# Altium integrated library Cypress Clocks & Buffers Clock Generation.IntLib: 249 symbols (part 9 of 12)
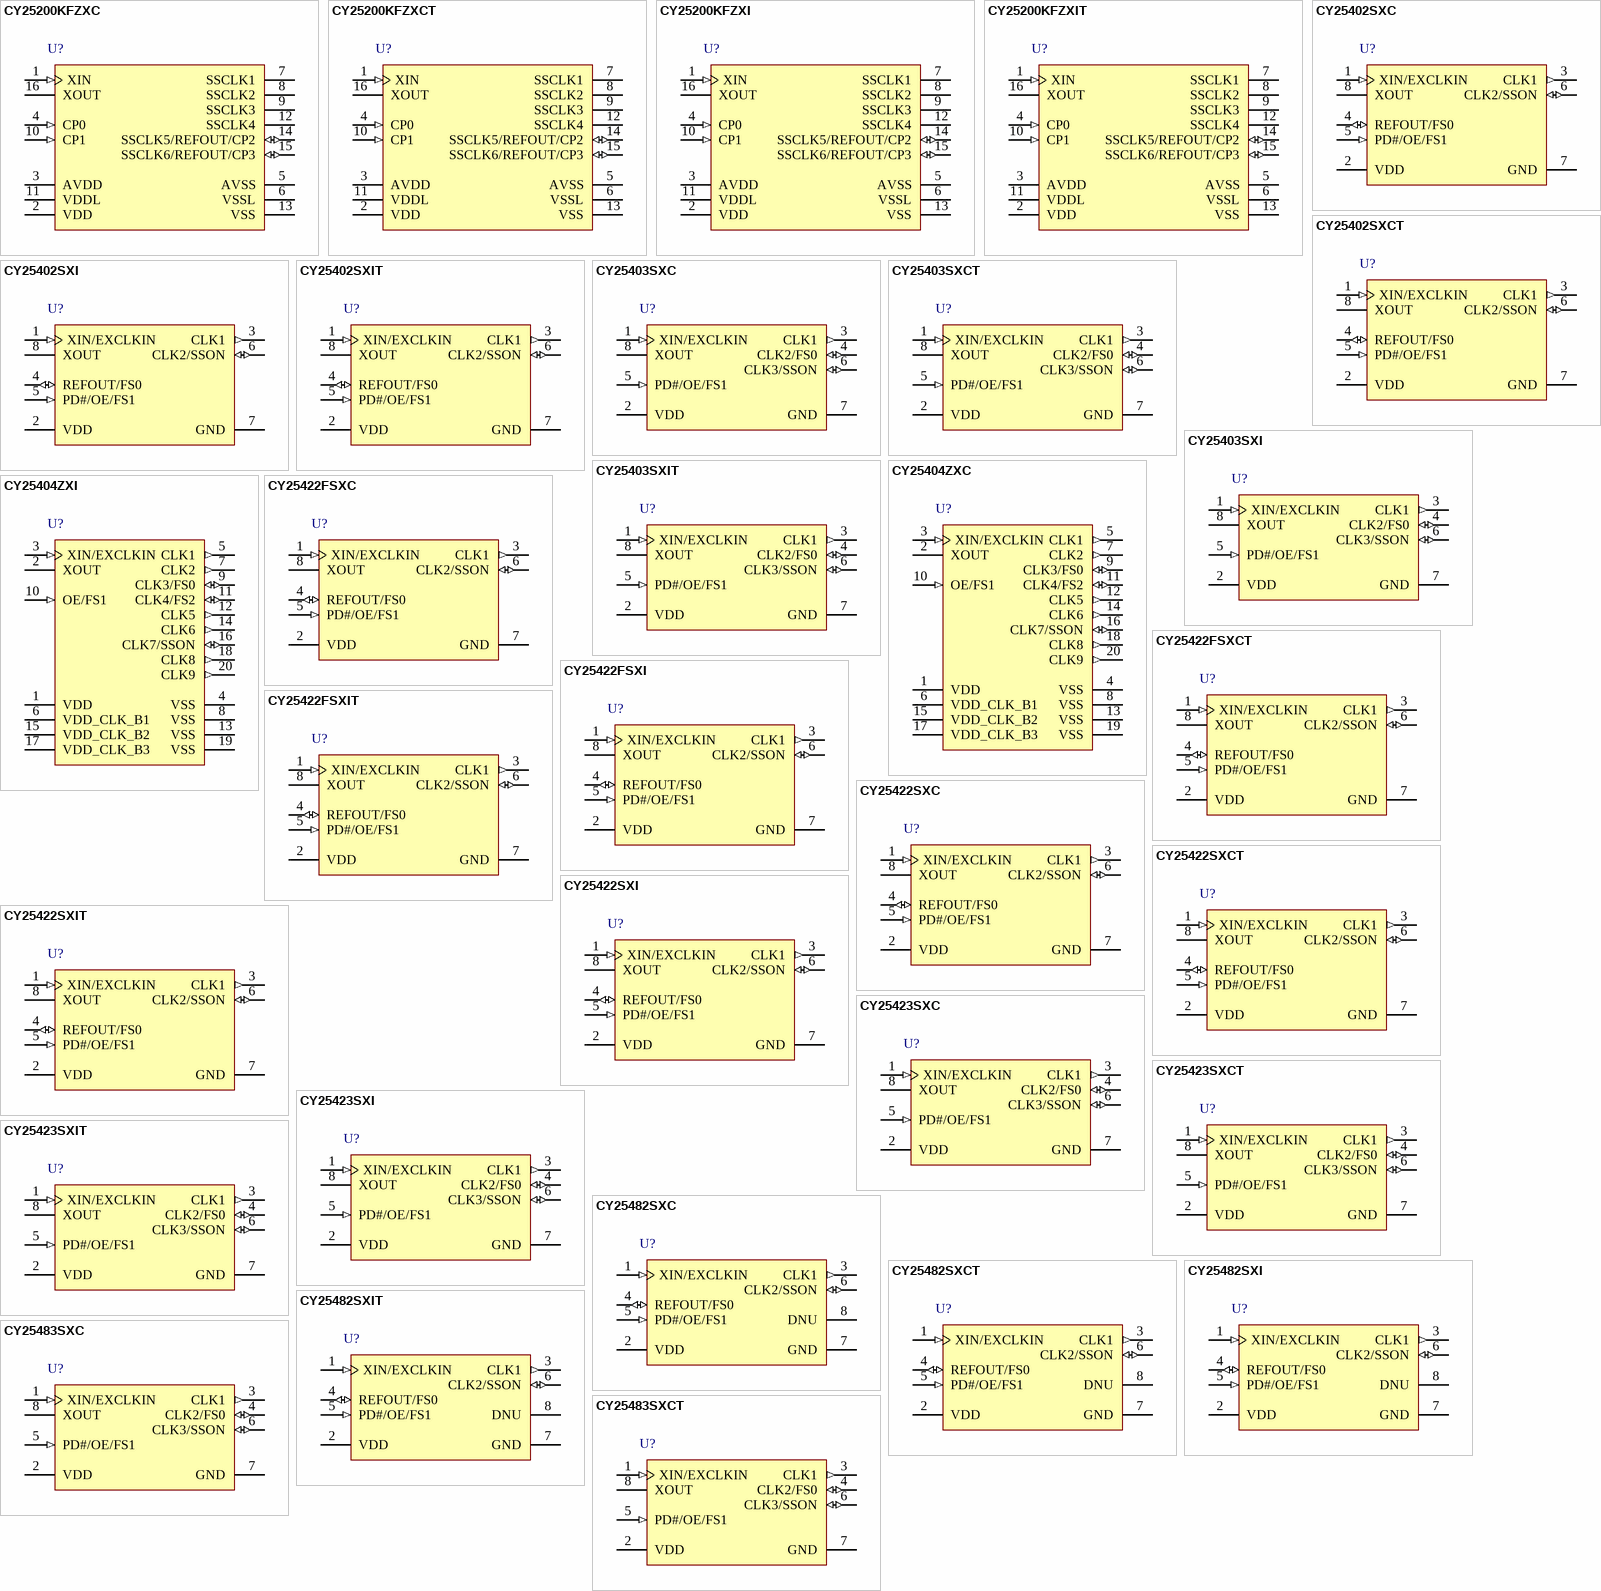
[diagram p16: symbols CY25200KFZXC to CY25483SXCT]

## CY25483SXC
designator U?
Three PLL Programmable Clock Generator with Spread Spectrum, 2.5 / 3.0 / 3.3 V, 3 Outputs, 3 to 166 MHz, 0 to 70 degC, 8-Pin SOIC (SX8), Tube; Manufacturer: Cypress; PartNumber: CY25483SXC; Input Frequency Max. (MHz): 166; Input Frequency Min. (MHz): 8; Max. Operating Voltage (V): 3.6; Min. Operating Voltage (V): 2.25; No. of Outputs: 3; DatasheetVersion: Rev. *F; PackageVersion: Rev. *E, 06/2011; PackageReference: SX8; PackageDescription: 8-pin Lead SOIC-S08, Body 4.89 x 3.90 mm,Pitch 1.27 mm; Max. Operating Temp. (degreesC): 70; Min. Operating Temp. (degreesC): 0; Output Frequency Max. (MHz): 166; Output Frequency Min. (MHz): 3; Packing: Tube; RoHS: Pb-Free; Mounting Technology: Surface Mount; Code_JEDEC: MS-012; ComponentLink1Description: Manufacturer URL; ComponentLink1URL: http://www.cypress.com/; ComponentLink2Description: Datasheet; ComponentLink2URL: http://www.cypress.com/?docID=30306; ComponentLink3Description: Package Specification; ComponentLink3URL: http://www.cypress.com/?docID=39153
footprint CYP-SX8_N (SOIC, 8-Leads, Body 4.89x3.90mm, Pitch 1.27mm, IPC Medium Density)
footprint CYP-SX8_L (SOIC, 8-Leads, Body 4.89x3.90mm, Pitch 1.27mm, IPC High Density)
footprint CYP-SX8_M (SOIC, 8-Leads, Body 4.89x3.90mm, Pitch 1.27mm, IPC Low Density)
pins: 1 XIN/EXCLKIN (in) "Crystal input or 1.8 V external clock input", 2 VDD (power) "Power supply: 2.5 V, 3.0 V, or 3.3 V", 3 CLK1 (out) "Programmable clock output with spread spectrum", 4 CLK2/FS0 (io) "Multifunction programmable pin: programmable clock output with no spread spectrum or frequency select pin", 5 PD#/OE/FS1 (in) "Multifunction programmable pin: power-down, output enable, or frequency select pin", 6 CLK3/SSON (io) "Multifunction programmable pin: programmable clock output with spread spectrum or spread spectrum ON/OFF control pin", 7 GND (power) "Power supply ground", 8 XOUT "Crystal output"

## CY25483SXCT
designator U?
Three PLL Programmable Clock Generator with Spread Spectrum, 2.5 / 3.0 / 3.3 V, 3 Outputs, 3 to 166 MHz, 0 to 70 degC, 8-Pin SOIC (SX8), Tape and Reel; Manufacturer: Cypress; PartNumber: CY25483SXCT; Input Frequency Max. (MHz): 166; Input Frequency Min. (MHz): 8; Max. Operating Voltage (V): 3.6; Min. Operating Voltage (V): 2.25; No. of Outputs: 3; DatasheetVersion: Rev. *F; PackageVersion: Rev. *E, 06/2011; PackageReference: SX8; PackageDescription: 8-pin Lead SOIC-S08, Body 4.89 x 3.90 mm,Pitch 1.27 mm; Max. Operating Temp. (degreesC): 70; Min. Operating Temp. (degreesC): 0; Output Frequency Max. (MHz): 166; Output Frequency Min. (MHz): 3; Packing: Tape and Reel; RoHS: Pb-Free; Mounting Technology: Surface Mount; Code_JEDEC: MS-012; ComponentLink1Description: Manufacturer URL; ComponentLink1URL: http://www.cypress.com/; ComponentLink2Description: Datasheet; ComponentLink2URL: http://www.cypress.com/?docID=30306; ComponentLink3Description: Package Specification; ComponentLink3URL: http://www.cypress.com/?docID=39153
footprint CYP-SX8_N (SOIC, 8-Leads, Body 4.89x3.90mm, Pitch 1.27mm, IPC Medium Density)
footprint CYP-SX8_L (SOIC, 8-Leads, Body 4.89x3.90mm, Pitch 1.27mm, IPC High Density)
footprint CYP-SX8_M (SOIC, 8-Leads, Body 4.89x3.90mm, Pitch 1.27mm, IPC Low Density)
pins: 1 XIN/EXCLKIN (in) "Crystal input or 1.8 V external clock input", 2 VDD (power) "Power supply: 2.5 V, 3.0 V, or 3.3 V", 3 CLK1 (out) "Programmable clock output with spread spectrum", 4 CLK2/FS0 (io) "Multifunction programmable pin: programmable clock output with no spread spectrum or frequency select pin", 5 PD#/OE/FS1 (in) "Multifunction programmable pin: power-down, output enable, or frequency select pin", 6 CLK3/SSON (io) "Multifunction programmable pin: programmable clock output with spread spectrum or spread spectrum ON/OFF control pin", 7 GND (power) "Power supply ground", 8 XOUT "Crystal output"

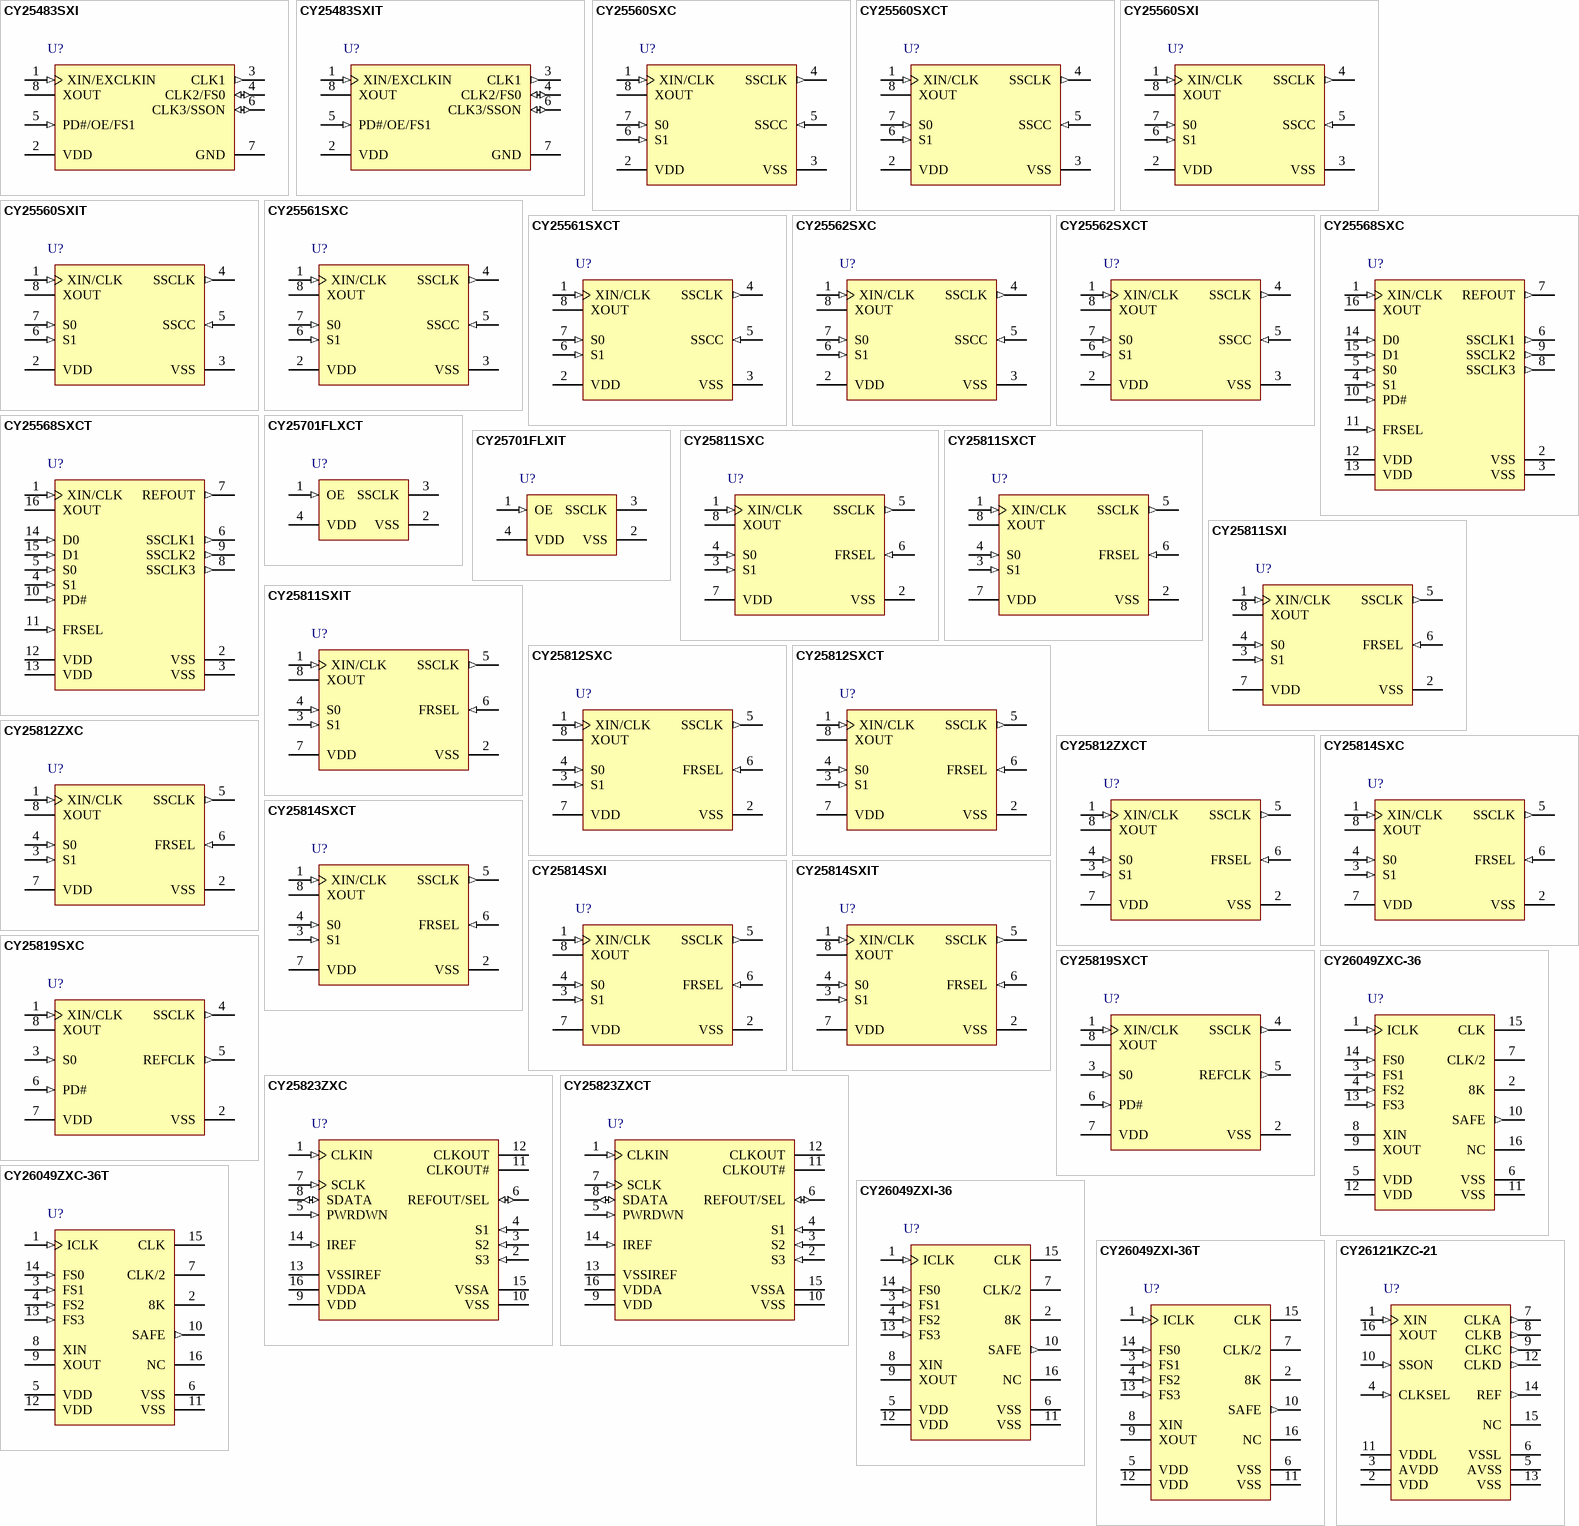
[diagram p6: symbols CY25483SXI to CY26121KZC-21]

## CY25483SXI
designator U?
Three PLL Programmable Clock Generator with Spread Spectrum, 2.5 / 3.0 / 3.3 V, 3 Outputs, 3 to 166 MHz, -40 to 85 degC, 8-Pin SOIC (SX8), Tube; Manufacturer: Cypress; PartNumber: CY25483SXI; Input Frequency Max. (MHz): 166; Input Frequency Min. (MHz): 8; Max. Operating Voltage (V): 3.6; Min. Operating Voltage (V): 2.25; No. of Outputs: 3; DatasheetVersion: Rev. *F; PackageVersion: Rev. *E, 06/2011; PackageReference: SX8; PackageDescription: 8-pin Lead SOIC-S08, Body 4.89 x 3.90 mm,Pitch 1.27 mm; Max. Operating Temp. (degreesC): 85; Min. Operating Temp. (degreesC): -40; Output Frequency Max. (MHz): 166; Output Frequency Min. (MHz): 3; Packing: Tube; RoHS: Pb-Free; Mounting Technology: Surface Mount; Code_JEDEC: MS-012; ComponentLink1Description: Manufacturer URL; ComponentLink1URL: http://www.cypress.com/; ComponentLink2Description: Datasheet; ComponentLink2URL: http://www.cypress.com/?docID=30306; ComponentLink3Description: Package Specification; ComponentLink3URL: http://www.cypress.com/?docID=39153
footprint CYP-SX8_N (SOIC, 8-Leads, Body 4.89x3.90mm, Pitch 1.27mm, IPC Medium Density)
footprint CYP-SX8_L (SOIC, 8-Leads, Body 4.89x3.90mm, Pitch 1.27mm, IPC High Density)
footprint CYP-SX8_M (SOIC, 8-Leads, Body 4.89x3.90mm, Pitch 1.27mm, IPC Low Density)
pins: 1 XIN/EXCLKIN (in) "Crystal input or 1.8 V external clock input", 2 VDD (power) "Power supply: 2.5 V, 3.0 V, or 3.3 V", 3 CLK1 (out) "Programmable clock output with spread spectrum", 4 CLK2/FS0 (io) "Multifunction programmable pin: programmable clock output with no spread spectrum or frequency select pin", 5 PD#/OE/FS1 (in) "Multifunction programmable pin: power-down, output enable, or frequency select pin", 6 CLK3/SSON (io) "Multifunction programmable pin: programmable clock output with spread spectrum or spread spectrum ON/OFF control pin", 7 GND (power) "Power supply ground", 8 XOUT "Crystal output"

## CY25483SXIT
designator U?
Three PLL Programmable Clock Generator with Spread Spectrum, 2.5 / 3.0 / 3.3 V, 3 Outputs, 3 to 166 MHz, -40 to 85 degC, 8-Pin SOIC (SX8), Tape and Reel; Manufacturer: Cypress; PartNumber: CY25483SXIT; Input Frequency Max. (MHz): 166; Input Frequency Min. (MHz): 8; Max. Operating Voltage (V): 3.6; Min. Operating Voltage (V): 2.25; No. of Outputs: 3; DatasheetVersion: Rev. *F; PackageVersion: Rev. *E, 06/2011; PackageReference: SX8; PackageDescription: 8-pin Lead SOIC-S08, Body 4.89 x 3.90 mm,Pitch 1.27 mm; Max. Operating Temp. (degreesC): 85; Min. Operating Temp. (degreesC): -40; Output Frequency Max. (MHz): 166; Output Frequency Min. (MHz): 3; Packing: Tape and Reel; RoHS: Pb-Free; Mounting Technology: Surface Mount; Code_JEDEC: MS-012; ComponentLink1Description: Manufacturer URL; ComponentLink1URL: http://www.cypress.com/; ComponentLink2Description: Datasheet; ComponentLink2URL: http://www.cypress.com/?docID=30306; ComponentLink3Description: Package Specification; ComponentLink3URL: http://www.cypress.com/?docID=39153
footprint CYP-SX8_N (SOIC, 8-Leads, Body 4.89x3.90mm, Pitch 1.27mm, IPC Medium Density)
footprint CYP-SX8_L (SOIC, 8-Leads, Body 4.89x3.90mm, Pitch 1.27mm, IPC High Density)
footprint CYP-SX8_M (SOIC, 8-Leads, Body 4.89x3.90mm, Pitch 1.27mm, IPC Low Density)
pins: 1 XIN/EXCLKIN (in) "Crystal input or 1.8 V external clock input", 2 VDD (power) "Power supply: 2.5 V, 3.0 V, or 3.3 V", 3 CLK1 (out) "Programmable clock output with spread spectrum", 4 CLK2/FS0 (io) "Multifunction programmable pin: programmable clock output with no spread spectrum or frequency select pin", 5 PD#/OE/FS1 (in) "Multifunction programmable pin: power-down, output enable, or frequency select pin", 6 CLK3/SSON (io) "Multifunction programmable pin: programmable clock output with spread spectrum or spread spectrum ON/OFF control pin", 7 GND (power) "Power supply ground", 8 XOUT "Crystal output"

## CY25560SXC
designator U?
Spread Spectrum Clock Generator, 3.3 V, 1 Output, 25 to 100 MHz, 0 to 70 degC, 8-Pin SOIC (SX8), Tube; Manufacturer: Cypress; PartNumber: CY25560SXC; Input Frequency Max. (MHz): 100; Input Frequency Min. (MHz): 25; Max. Operating Voltage (V): 3.63; Min. Operating Voltage (V): 2.97; No. of Outputs: 1; DatasheetVersion: Rev. *G; PackageVersion: Rev. *E, 06/2011; PackageReference: SX8; PackageDescription: 8-pin Lead SOIC-S08, Body 4.89 x 3.90 mm,Pitch 1.27 mm; Supplier 1: Digi-Key; Supplier Part Number 1: 428-2222-5-ND; Supplier 2: Newark; Supplier Part Number 2: 19M6008; Supplier 3: Mouser; Supplier Part Number 3: 727-CY25560SXC; Max. Operating Temp. (degreesC): 70; Min. Operating Temp. (degreesC): 0; Output Frequency Max. (MHz): 100; Output Frequency Min. (MHz): 25; Packing: Tube; RoHS: Pb-Free; Mounting Technology: Surface Mount; Code_JEDEC: MS-012; ComponentLink1Description: Manufacturer URL; ComponentLink1URL: http://www.cypress.com/; ComponentLink2Description: Datasheet; ComponentLink2URL: http://www.cypress.com/?docID=30665; ComponentLink3Description: Package Specification; ComponentLink3URL: http://www.cypress.com/?docID=39153
footprint CYP-SX8_N (SOIC, 8-Leads, Body 4.89x3.90mm, Pitch 1.27mm, IPC Medium Density)
footprint CYP-SX8_L (SOIC, 8-Leads, Body 4.89x3.90mm, Pitch 1.27mm, IPC High Density)
footprint CYP-SX8_M (SOIC, 8-Leads, Body 4.89x3.90mm, Pitch 1.27mm, IPC Low Density)
pins: 1 XIN/CLK (in) "Clock or crystal connection input. See the Table 2 on page 4 for input frequency range selection.", 2 VDD (power) "Positive power supply", 3 VSS (power) "Power supply ground.", 4 SSCLK (out) "Modulated clock output, that is the same frequency as the input clock or the crystal frequency.", 5 SSCC (in) "Spread spectrum clock control (enable/disable) function. SSCG function is enabled when input is high and disabled when input is low. This pin is pulled high internally.", 6 S1 (in) "Tri-level logic input control pin used to select input frequency range and spread percent. See the “Tri-Level Logic?on page 4 for programming details. Pin 6 has an internal resistor divider network to VDD and VSS. (See Datasheet)", 7 S0 (in) "Tri-level logic input control pin used to select input frequency range and spread percent. See the “Tri-Level Logic?on page 4 for programming details. Pin 7 has an internal resistor divider network to VDD and VSS. (See Datasheet)", 8 XOUT "Oscillator output pin connected to crystal. Leave this pin unconnected if an external clock is used to drive xin/clk input (Pin 1)."

## CY25560SXCT
designator U?
Spread Spectrum Clock Generator, 3.3 V, 1 Output, 25 to 100 MHz, 0 to 70 degC, 8-Pin SOIC (SX8), Tape and Reel; Manufacturer: Cypress; PartNumber: CY25560SXCT; Input Frequency Max. (MHz): 100; Input Frequency Min. (MHz): 25; Max. Operating Voltage (V): 3.63; Min. Operating Voltage (V): 2.97; No. of Outputs: 1; DatasheetVersion: Rev. *G; PackageVersion: Rev. *E, 06/2011; PackageReference: SX8; PackageDescription: 8-pin Lead SOIC-S08, Body 4.89 x 3.90 mm,Pitch 1.27 mm; Supplier 1: Digi-Key; Supplier Part Number 1: CY25560SXCT-ND; Supplier 2: Newark; Supplier Part Number 2: 19M6009; Supplier 3: Mouser; Supplier Part Number 3: 727-CY25560SXCT; Max. Operating Temp. (degreesC): 70; Min. Operating Temp. (degreesC): 0; Output Frequency Max. (MHz): 100; Output Frequency Min. (MHz): 25; Packing: Tape and Reel; RoHS: Pb-Free; Mounting Technology: Surface Mount; Code_JEDEC: MS-012; ComponentLink1Description: Manufacturer URL; ComponentLink1URL: http://www.cypress.com/; ComponentLink2Description: Datasheet; ComponentLink2URL: http://www.cypress.com/?docID=30665; ComponentLink3Description: Package Specification; ComponentLink3URL: http://www.cypress.com/?docID=39153
footprint CYP-SX8_N (SOIC, 8-Leads, Body 4.89x3.90mm, Pitch 1.27mm, IPC Medium Density)
footprint CYP-SX8_L (SOIC, 8-Leads, Body 4.89x3.90mm, Pitch 1.27mm, IPC High Density)
footprint CYP-SX8_M (SOIC, 8-Leads, Body 4.89x3.90mm, Pitch 1.27mm, IPC Low Density)
pins: 1 XIN/CLK (in) "Clock or crystal connection input. See the Table 2 on page 4 for input frequency range selection.", 2 VDD (power) "Positive power supply", 3 VSS (power) "Power supply ground.", 4 SSCLK (out) "Modulated clock output, that is the same frequency as the input clock or the crystal frequency.", 5 SSCC (in) "Spread spectrum clock control (enable/disable) function. SSCG function is enabled when input is high and disabled when input is low. This pin is pulled high internally.", 6 S1 (in) "Tri-level logic input control pin used to select input frequency range and spread percent. See the “Tri-Level Logic?on page 4 for programming details. Pin 6 has an internal resistor divider network to VDD and VSS. (See Datasheet)", 7 S0 (in) "Tri-level logic input control pin used to select input frequency range and spread percent. See the “Tri-Level Logic?on page 4 for programming details. Pin 7 has an internal resistor divider network to VDD and VSS. (See Datasheet)", 8 XOUT "Oscillator output pin connected to crystal. Leave this pin unconnected if an external clock is used to drive xin/clk input (Pin 1)."

## CY25560SXI
designator U?
Spread Spectrum Clock Generator, 3.3 V, 1 Output, 25 to 100 MHz, -40 to 85 degC, 8-Pin SOIC (SX8), Tube; Manufacturer: Cypress; PartNumber: CY25560SXI; Input Frequency Max. (MHz): 100; Input Frequency Min. (MHz): 25; Max. Operating Voltage (V): 3.63; Min. Operating Voltage (V): 2.97; No. of Outputs: 1; DatasheetVersion: Rev. *G; PackageVersion: Rev. *E, 06/2011; PackageReference: SX8; PackageDescription: 8-pin Lead SOIC-S08, Body 4.89 x 3.90 mm,Pitch 1.27 mm; Supplier 1: Digi-Key; Supplier Part Number 1: CY25560SXI-ND; Supplier 2: Newark; Supplier Part Number 2: 19M6010; Supplier 3: Mouser; Supplier Part Number 3: 727-CY25560SXI; Max. Operating Temp. (degreesC): 85; Min. Operating Temp. (degreesC): -40; Output Frequency Max. (MHz): 100; Output Frequency Min. (MHz): 25; Packing: Tube; RoHS: Pb-Free; Mounting Technology: Surface Mount; Code_JEDEC: MS-012; ComponentLink1Description: Manufacturer URL; ComponentLink1URL: http://www.cypress.com/; ComponentLink2Description: Datasheet; ComponentLink2URL: http://www.cypress.com/?docID=30665; ComponentLink3Description: Package Specification; ComponentLink3URL: http://www.cypress.com/?docID=39153
footprint CYP-SX8_N (SOIC, 8-Leads, Body 4.89x3.90mm, Pitch 1.27mm, IPC Medium Density)
footprint CYP-SX8_L (SOIC, 8-Leads, Body 4.89x3.90mm, Pitch 1.27mm, IPC High Density)
footprint CYP-SX8_M (SOIC, 8-Leads, Body 4.89x3.90mm, Pitch 1.27mm, IPC Low Density)
pins: 1 XIN/CLK (in) "Clock or crystal connection input. See the Table 2 on page 4 for input frequency range selection.", 2 VDD (power) "Positive power supply", 3 VSS (power) "Power supply ground.", 4 SSCLK (out) "Modulated clock output, that is the same frequency as the input clock or the crystal frequency.", 5 SSCC (in) "Spread spectrum clock control (enable/disable) function. SSCG function is enabled when input is high and disabled when input is low. This pin is pulled high internally.", 6 S1 (in) "Tri-level logic input control pin used to select input frequency range and spread percent. See the “Tri-Level Logic?on page 4 for programming details. Pin 6 has an internal resistor divider network to VDD and VSS. (See Datasheet)", 7 S0 (in) "Tri-level logic input control pin used to select input frequency range and spread percent. See the “Tri-Level Logic?on page 4 for programming details. Pin 7 has an internal resistor divider network to VDD and VSS. (See Datasheet)", 8 XOUT "Oscillator output pin connected to crystal. Leave this pin unconnected if an external clock is used to drive xin/clk input (Pin 1)."

## CY25560SXIT
designator U?
Spread Spectrum Clock Generator, 3.3 V, 1 Output, 25 to 100 MHz, -40 to 85 degC, 8-Pin SOIC (SX8), Tape and Reel; Manufacturer: Cypress; PartNumber: CY25560SXIT; Input Frequency Max. (MHz): 100; Input Frequency Min. (MHz): 25; Max. Operating Voltage (V): 3.63; Min. Operating Voltage (V): 2.97; No. of Outputs: 1; DatasheetVersion: Rev. *G; PackageVersion: Rev. *E, 06/2011; PackageReference: SX8; PackageDescription: 8-pin Lead SOIC-S08, Body 4.89 x 3.90 mm,Pitch 1.27 mm; Supplier 1: Digi-Key; Supplier Part Number 1: CY25560SXIT-ND; Supplier 2: Mouser; Supplier Part Number 2: 727-CY25560SXIT; Max. Operating Temp. (degreesC): 85; Min. Operating Temp. (degreesC): -40; Output Frequency Max. (MHz): 100; Output Frequency Min. (MHz): 25; Packing: Tape and Reel; RoHS: Pb-Free; Mounting Technology: Surface Mount; Code_JEDEC: MS-012; ComponentLink1Description: Manufacturer URL; ComponentLink1URL: http://www.cypress.com/; ComponentLink2Description: Datasheet; ComponentLink2URL: http://www.cypress.com/?docID=30665; ComponentLink3Description: Package Specification; ComponentLink3URL: http://www.cypress.com/?docID=39153
footprint CYP-SX8_N (SOIC, 8-Leads, Body 4.89x3.90mm, Pitch 1.27mm, IPC Medium Density)
footprint CYP-SX8_L (SOIC, 8-Leads, Body 4.89x3.90mm, Pitch 1.27mm, IPC High Density)
footprint CYP-SX8_M (SOIC, 8-Leads, Body 4.89x3.90mm, Pitch 1.27mm, IPC Low Density)
pins: 1 XIN/CLK (in) "Clock or crystal connection input. See the Table 2 on page 4 for input frequency range selection.", 2 VDD (power) "Positive power supply", 3 VSS (power) "Power supply ground.", 4 SSCLK (out) "Modulated clock output, that is the same frequency as the input clock or the crystal frequency.", 5 SSCC (in) "Spread spectrum clock control (enable/disable) function. SSCG function is enabled when input is high and disabled when input is low. This pin is pulled high internally.", 6 S1 (in) "Tri-level logic input control pin used to select input frequency range and spread percent. See the “Tri-Level Logic?on page 4 for programming details. Pin 6 has an internal resistor divider network to VDD and VSS. (See Datasheet)", 7 S0 (in) "Tri-level logic input control pin used to select input frequency range and spread percent. See the “Tri-Level Logic?on page 4 for programming details. Pin 7 has an internal resistor divider network to VDD and VSS. (See Datasheet)", 8 XOUT "Oscillator output pin connected to crystal. Leave this pin unconnected if an external clock is used to drive xin/clk input (Pin 1)."

## CY25561SXC
designator U?
Spread Spectrum Clock Generator, 3.3 V, 1 Output, 0 to 70 degC, 8-Pin SOIC (SX8), Tube; Manufacturer: Cypress; PartNumber: CY25561SXC; Input Frequency Max. (MHz): 166; Input Frequency Min. (MHz): 50; Max. Operating Voltage (V): 3.63; Min. Operating Voltage (V): 2.97; No. of Outputs: 1; DatasheetVersion: Rev. *G; PackageVersion: Rev. *E, 06/2011; PackageReference: SX8; PackageDescription: 8-pin Lead SOIC-S08, Body 4.89 x 3.90 mm,Pitch 1.27 mm; Supplier 1: Digi-Key; Supplier Part Number 1: CY25561SXC-ND; Supplier 2: Mouser; Supplier Part Number 2: 727-CY25561SXC; Max. Operating Temp. (degreesC): 70; Min. Operating Temp. (degreesC): 0; Packing: Tube; RoHS: Pb-Free; Mounting Technology: Surface Mount; Code_JEDEC: MS-012; ComponentLink1Description: Manufacturer URL; ComponentLink1URL: http://www.cypress.com/; ComponentLink2Description: Datasheet; ComponentLink2URL: http://www.cypress.com/?docID=47568; ComponentLink3Description: Package Specification; ComponentLink3URL: http://www.cypress.com/?docID=39153
footprint CYP-SX8_N (SOIC, 8-Leads, Body 4.89x3.90mm, Pitch 1.27mm, IPC Medium Density)
footprint CYP-SX8_L (SOIC, 8-Leads, Body 4.89x3.90mm, Pitch 1.27mm, IPC High Density)
footprint CYP-SX8_M (SOIC, 8-Leads, Body 4.89x3.90mm, Pitch 1.27mm, IPC Low Density)
pins: 1 XIN/CLK (in) "Clock or crystal connection input. Refer to Table 1 for input frequency range selection.", 2 VDD (power) "Positive power supply", 3 VSS (power) "Power supply ground", 4 SSCLK (out) "Modulated clock output", 5 SSCC (in) "Spread spectrum clock control (enable/disable) function. SSCG function is enabled when input is high and disabled when input is low. This pin is pulled high internally.", 6 S1 (in) "Tri-level logic input control pin used to select frequency and bandwidth. Frequency/Bandwidth selection and tri-level logic programming. See Figure 2. Pin 6 has internal resistor divider network to VDD and VSS. Refer to (See Datasheet)", 7 S0 (in) "Tri-level logic input control pin used to select frequency and bandwidth. Frequency/Bandwidth selection and tri-level logic programming. See Figure 2. Pin 7 has internal resistor divider network to VDD and VSS. Refer to (See Datasheet)", 8 XOUT "Oscillator output pin connected to crystal. Leave this pin unconnected If an external clock drives XIN/CLK."

## CY25561SXCT
designator U?
Spread Spectrum Clock Generator, 3.3 V, 1 Output, 0 to 70 degC, 8-Pin SOIC (SX8), Tape and Reel; Manufacturer: Cypress; PartNumber: CY25561SXCT; Input Frequency Max. (MHz): 166; Input Frequency Min. (MHz): 50; Max. Operating Voltage (V): 3.63; Min. Operating Voltage (V): 2.97; No. of Outputs: 1; DatasheetVersion: Rev. *G; PackageVersion: Rev. *E, 06/2011; PackageReference: SX8; PackageDescription: 8-pin Lead SOIC-S08, Body 4.89 x 3.90 mm,Pitch 1.27 mm; Supplier 1: Digi-Key; Supplier Part Number 1: CY25561SXCT-ND; Supplier 2: Mouser; Supplier Part Number 2: 727-CY25561SXCT; Max. Operating Temp. (degreesC): 70; Min. Operating Temp. (degreesC): 0; Packing: Tape and Reel; RoHS: Pb-Free; Mounting Technology: Surface Mount; Code_JEDEC: MS-012; ComponentLink1Description: Manufacturer URL; ComponentLink1URL: http://www.cypress.com/; ComponentLink2Description: Datasheet; ComponentLink2URL: http://www.cypress.com/?docID=47568; ComponentLink3Description: Package Specification; ComponentLink3URL: http://www.cypress.com/?docID=39153
footprint CYP-SX8_N (SOIC, 8-Leads, Body 4.89x3.90mm, Pitch 1.27mm, IPC Medium Density)
footprint CYP-SX8_L (SOIC, 8-Leads, Body 4.89x3.90mm, Pitch 1.27mm, IPC High Density)
footprint CYP-SX8_M (SOIC, 8-Leads, Body 4.89x3.90mm, Pitch 1.27mm, IPC Low Density)
pins: 1 XIN/CLK (in) "Clock or crystal connection input. Refer to Table 1 for input frequency range selection.", 2 VDD (power) "Positive power supply", 3 VSS (power) "Power supply ground", 4 SSCLK (out) "Modulated clock output", 5 SSCC (in) "Spread spectrum clock control (enable/disable) function. SSCG function is enabled when input is high and disabled when input is low. This pin is pulled high internally.", 6 S1 (in) "Tri-level logic input control pin used to select frequency and bandwidth. Frequency/Bandwidth selection and tri-level logic programming. See Figure 2. Pin 6 has internal resistor divider network to VDD and VSS. Refer to (See Datasheet)", 7 S0 (in) "Tri-level logic input control pin used to select frequency and bandwidth. Frequency/Bandwidth selection and tri-level logic programming. See Figure 2. Pin 7 has internal resistor divider network to VDD and VSS. Refer to (See Datasheet)", 8 XOUT "Oscillator output pin connected to crystal. Leave this pin unconnected If an external clock drives XIN/CLK."

## CY25562SXC
designator U?
Spread Spectrum Clock Generator, 3.3 V, 1 Output, 50 to 200 MHz, 0 to 70 degC, 8-Pin SOIC (SX8), Tube; Manufacturer: Cypress; PartNumber: CY25562SXC; Input Frequency Max. (MHz): 200; Input Frequency Min. (MHz): 50; Max. Operating Voltage (V): 3.63; Min. Operating Voltage (V): 2.97; No. of Outputs: 1; DatasheetVersion: Rev. *E; PackageVersion: Rev. *E, 06/2011; PackageReference: SX8; PackageDescription: 8-pin Lead SOIC-S08, Body 4.89 x 3.90 mm,Pitch 1.27 mm; Supplier 1: Digi-Key; Supplier Part Number 1: 428-2223-5-ND; Supplier 2: Mouser; Supplier Part Number 2: 727-CY25562SXC; Max. Operating Temp. (degreesC): 70; Min. Operating Temp. (degreesC): 0; Output Frequency Max. (MHz): 200; Output Frequency Min. (MHz): 50; Packing: Tube; RoHS: Pb-Free; Mounting Technology: Surface Mount; Code_JEDEC: MS-012; ComponentLink1Description: Manufacturer URL; ComponentLink1URL: http://www.cypress.com/; ComponentLink2Description: Datasheet; ComponentLink2URL: http://www.cypress.com/?docID=34829; ComponentLink3Description: Package Specification; ComponentLink3URL: http://www.cypress.com/?docID=39153
footprint CYP-SX8_N (SOIC, 8-Leads, Body 4.89x3.90mm, Pitch 1.27mm, IPC Medium Density)
footprint CYP-SX8_L (SOIC, 8-Leads, Body 4.89x3.90mm, Pitch 1.27mm, IPC High Density)
footprint CYP-SX8_M (SOIC, 8-Leads, Body 4.89x3.90mm, Pitch 1.27mm, IPC Low Density)
pins: 1 XIN/CLK (in) "Clock or crystal connection input. See the Table 2 on page 4 for input frequency range selection.", 2 VDD (power) "Positive power supply", 3 VSS (power) "Power supply ground.", 4 SSCLK (out) "Modulated clock output, that is the same frequency as the input clock or the crystal frequency.", 5 SSCC (in) "Spread spectrum clock control (enable/disable) function. SSCG function is enabled when input is high and disabled when input is low. This pin is pulled high internally.", 6 S1 (in) "Tri-level logic input control pin used to select input frequency range and spread percent. See the “Tri-Level Logic?on page 4 for programming details. Pin 6 has an internal resistor divider network to VDD and VSS. (See Datasheet)", 7 S0 (in) "Tri-level logic input control pin used to select input frequency range and spread percent. See the “Tri-Level Logic?on page 4 for programming details. Pin 7 has an internal resistor divider network to VDD and VSS. (See Datasheet)", 8 XOUT "Oscillator output pin connected to crystal. Leave this pin unconnected if an external clock is used to drive xin/clk input (Pin 1)."

## CY25562SXCT
designator U?
Spread Spectrum Clock Generator, 3.3 V, 1 Output, 50 to 200 MHz, 0 to 70 degC, 8-Pin SOIC (SX8), Tape and Reel; Manufacturer: Cypress; PartNumber: CY25562SXCT; Input Frequency Max. (MHz): 200; Input Frequency Min. (MHz): 50; Max. Operating Voltage (V): 3.63; Min. Operating Voltage (V): 2.97; No. of Outputs: 1; DatasheetVersion: Rev. *E; PackageVersion: Rev. *E, 06/2011; PackageReference: SX8; PackageDescription: 8-pin Lead SOIC-S08, Body 4.89 x 3.90 mm,Pitch 1.27 mm; Supplier 1: Digi-Key; Supplier Part Number 1: CY25562SXCT-ND; Supplier 2: Mouser; Supplier Part Number 2: 727-CY25562SXCT; Max. Operating Temp. (degreesC): 70; Min. Operating Temp. (degreesC): 0; Output Frequency Max. (MHz): 200; Output Frequency Min. (MHz): 50; Packing: Tape and Reel; RoHS: Pb-Free; Mounting Technology: Surface Mount; Code_JEDEC: MS-012; ComponentLink1Description: Manufacturer URL; ComponentLink1URL: http://www.cypress.com/; ComponentLink2Description: Datasheet; ComponentLink2URL: http://www.cypress.com/?docID=34829; ComponentLink3Description: Package Specification; ComponentLink3URL: http://www.cypress.com/?docID=39153
footprint CYP-SX8_N (SOIC, 8-Leads, Body 4.89x3.90mm, Pitch 1.27mm, IPC Medium Density)
footprint CYP-SX8_L (SOIC, 8-Leads, Body 4.89x3.90mm, Pitch 1.27mm, IPC High Density)
footprint CYP-SX8_M (SOIC, 8-Leads, Body 4.89x3.90mm, Pitch 1.27mm, IPC Low Density)
pins: 1 XIN/CLK (in) "Clock or crystal connection input. See the Table 2 on page 4 for input frequency range selection.", 2 VDD (power) "Positive power supply", 3 VSS (power) "Power supply ground.", 4 SSCLK (out) "Modulated clock output, that is the same frequency as the input clock or the crystal frequency.", 5 SSCC (in) "Spread spectrum clock control (enable/disable) function. SSCG function is enabled when input is high and disabled when input is low. This pin is pulled high internally.", 6 S1 (in) "Tri-level logic input control pin used to select input frequency range and spread percent. See the “Tri-Level Logic?on page 4 for programming details. Pin 6 has an internal resistor divider network to VDD and VSS. (See Datasheet)", 7 S0 (in) "Tri-level logic input control pin used to select input frequency range and spread percent. See the “Tri-Level Logic?on page 4 for programming details. Pin 7 has an internal resistor divider network to VDD and VSS. (See Datasheet)", 8 XOUT "Oscillator output pin connected to crystal. Leave this pin unconnected if an external clock is used to drive xin/clk input (Pin 1)."

## CY25568SXC
designator U?
Spread Spectrum Clock Generator, 3.3 V, 4 Outputs, 4 to 128 MHz, 0 to 70 degC,16-Pin SOIC (SX16), Tube; Manufacturer: Cypress; PartNumber: CY25568SXC; Input Frequency Max. (MHz): 32; Input Frequency Min. (MHz): 4; Max. Operating Voltage (V): 3.6; Min. Operating Voltage (V): 2.9; Output Frequency Max. (MHz): 128; DatasheetVersion: Rev. *D; PackageVersion: Rev. *E, 09/2012; PackageReference: SX16; PackageDescription: 16-Pin SOIC (150 MIL), Body 9.89 x 3.90 mm, Pitch 1.27 mm; Supplier 1: Digi-Key; Supplier Part Number 1: 428-2224-5-ND; Supplier 2: Mouser; Supplier Part Number 2: 727-CY25568SXC; Max. Operating Temp. (degreesC): 70; Min. Operating Temp. (degreesC): 0; No. of Outputs: 4; Output Frequency Min. (MHz): 4; Packing: Tube; RoHS: Pb-Free; Mounting Technology: Surface Mount; Code_JEDEC: MS-012; ComponentLink1Description: Manufacturer URL; ComponentLink1URL: http://www.cypress.com/; ComponentLink2Description: Datasheet; ComponentLink2URL: http://www.cypress.com/?docID=30305; ComponentLink3Description: Package Specification; ComponentLink3URL: http://www.cypress.com/?docID=39437
footprint CYP-SX16_N (SOIC, 16-Leads, Body 9.9x3.9mm, Pitch 1.27mm, IPC Medium Density)
footprint CYP-SX16_L (SOIC, 16-Leads, Body 9.9x3.9mm, Pitch 1.27mm, IPC High Density)
footprint CYP-SX16_M (SOIC, 16-Leads, Body 9.9x3.9mm, Pitch 1.27mm, IPC Low Density)
pins: 1 XIN/CLK (in) "Clock, crystal or ceramic resonator input pin", 2 VSS (power) "Power supply ground.", 3 VSS (power) "Power supply ground.", 4 S1 (in) "Digital Spread% control pin 3-Level input (H-M-L). Default= M.", 5 S0 (in) "Digital Spread% control pin 3-Level input (H-M-L). Default= M.", 6 SSCLK1 (out) "Output clock. Refer to Table 2 on page 5 for frequency programmability.", 7 REFOUT (out) "Reference clock output. The same frequency as Xin/CLK input.", 8 SSCLK3 (out) "Output clock. Refer to Table 2 on page 5 for frequency programmability.", 9 SSCLK2 (out) "Output clock. Refer to Table 2 on page 5 for frequency programmability.", 10 PD# (in) "Power-down control Internally pulled to VDD, Default= High.", 11 FRSEL (in) "Input frequency range selection digital control input 3-Level input (H-M-L). Default= M.", 12 VDD (power) "Positive power supply.", 13 VDD (power) "Positive power supply.", 14 D0 (in) "3-Level (H-M-L) Digital output clock scaling control. Refer to Table 2 on page 5. Default= M.", 15 D1 (in) "3-Level (H-M-L) Digital output clock scaling control. Refer to Table 2 on page 5. Default= M.", 16 XOUT "Crystal or ceramic resonator output pin"

## CY25568SXCT
designator U?
Spread Spectrum Clock Generator, 3.3 V, 4 Outputs, 4 to 128 MHz, 0 to 70 degC,16-Pin SOIC (SX16), Tape and Reel; Manufacturer: Cypress; PartNumber: CY25568SXCT; Input Frequency Max. (MHz): 32; Input Frequency Min. (MHz): 4; Max. Operating Voltage (V): 3.6; Min. Operating Voltage (V): 2.9; Output Frequency Max. (MHz): 128; DatasheetVersion: Rev. *D; PackageVersion: Rev. *E, 09/2012; PackageReference: SX16; PackageDescription: 16-Pin SOIC (150 MIL), Body 9.89 x 3.90 mm, Pitch 1.27 mm; Supplier 1: Digi-Key; Supplier Part Number 1: CY25568SXCT-ND; Supplier 2: Mouser; Supplier Part Number 2: 727-CY25568SXCT; Max. Operating Temp. (degreesC): 70; Min. Operating Temp. (degreesC): 0; No. of Outputs: 4; Output Frequency Min. (MHz): 4; Packing: Tape and Reel; RoHS: Pb-Free; Mounting Technology: Surface Mount; Code_JEDEC: MS-012; ComponentLink1Description: Manufacturer URL; ComponentLink1URL: http://www.cypress.com/; ComponentLink2Description: Datasheet; ComponentLink2URL: http://www.cypress.com/?docID=30305; ComponentLink3Description: Package Specification; ComponentLink3URL: http://www.cypress.com/?docID=39437
footprint CYP-SX16_N (SOIC, 16-Leads, Body 9.9x3.9mm, Pitch 1.27mm, IPC Medium Density)
footprint CYP-SX16_L (SOIC, 16-Leads, Body 9.9x3.9mm, Pitch 1.27mm, IPC High Density)
footprint CYP-SX16_M (SOIC, 16-Leads, Body 9.9x3.9mm, Pitch 1.27mm, IPC Low Density)
pins: 1 XIN/CLK (in) "Clock, crystal or ceramic resonator input pin", 2 VSS (power) "Power supply ground.", 3 VSS (power) "Power supply ground.", 4 S1 (in) "Digital Spread% control pin 3-Level input (H-M-L). Default= M.", 5 S0 (in) "Digital Spread% control pin 3-Level input (H-M-L). Default= M.", 6 SSCLK1 (out) "Output clock. Refer to Table 2 on page 5 for frequency programmability.", 7 REFOUT (out) "Reference clock output. The same frequency as Xin/CLK input.", 8 SSCLK3 (out) "Output clock. Refer to Table 2 on page 5 for frequency programmability.", 9 SSCLK2 (out) "Output clock. Refer to Table 2 on page 5 for frequency programmability.", 10 PD# (in) "Power-down control Internally pulled to VDD, Default= High.", 11 FRSEL (in) "Input frequency range selection digital control input 3-Level input (H-M-L). Default= M.", 12 VDD (power) "Positive power supply.", 13 VDD (power) "Positive power supply.", 14 D0 (in) "3-Level (H-M-L) Digital output clock scaling control. Refer to Table 2 on page 5. Default= M.", 15 D1 (in) "3-Level (H-M-L) Digital output clock scaling control. Refer to Table 2 on page 5. Default= M.", 16 XOUT "Crystal or ceramic resonator output pin"

## CY25701FLXCT
designator U?
Programmable High Frequency Crystal Oscillator with Spread Spectrum (SSXO) and No Spread Spectrum (XO) Option, 3.3 V, 1 Output, 10 to 166 MHz, 0 to 70 degC, 4-Pin LCC (LX4), Tape and Reel; Manufacturer: Cypress; PartNumber: CY25701FLXCT; Max. Operating Voltage (V): 3.6; Min. Operating Voltage (V): 3; No. of Outputs: 1; Output Frequency Max. (MHz): 166; Output Frequency Min. (MHz): 10; DatasheetVersion: Rev. *E; PackageVersion: Rev. *E; PackageReference: LX4; PackageDescription: 4-Pin Ceramic LCC, Body 5 x 3.2 mm, Pitch 2.5 mm; Supplier 1: Digi-Key; Supplier Part Number 1: CY25701FLXCT-ND; Supplier 2: Newark; Supplier Part Number 2: 19M6013; Supplier 3: Mouser; Supplier Part Number 3: 727-CY25701FLXCT; Max. Operating Temp. (degreesC): 70; Min. Operating Temp. (degreesC): 0; Packing: Tape and Reel; RoHS: Pb-Free; Mounting Technology: Surface Mount; ComponentLink1Description: Manufacturer URL; ComponentLink1URL: http://www.cypress.com/; ComponentLink2Description: Datasheet; ComponentLink2URL: http://www.cypress.com/?docID=31681; ComponentLink3Description: Package Specification; ComponentLink3URL: http://www.cypress.com/?docID=31681
footprint CYP-LX4_V (LCC, 4-Leads, Body 5x3.2mm, Pitch 2.5mm)
pins: 1 OE (in) "Output Enable pin: Active HIGH. If OE = 1, SSCLK is enabled", 2 VSS (power) "Power supply ground", 3 SSCLK (hiz) "Spread spectrum clock output (with or without spread)", 4 VDD (power) "3.3 V power supply"

## CY25701FLXIT
designator U?
Programmable High Frequency Crystal Oscillator with Spread Spectrum (SSXO) and No Spread Spectrum (XO) Option, 3.3 V, 1 Output, 10 to 166 MHz, -40 to 85 degC, 4-Pin LCC (LX4), Tape and Reel; Manufacturer: Cypress; PartNumber: CY25701FLXIT; Max. Operating Voltage (V): 3.6; Min. Operating Voltage (V): 3; No. of Outputs: 1; Output Frequency Max. (MHz): 166; Output Frequency Min. (MHz): 10; DatasheetVersion: Rev. *E; PackageVersion: Rev. *E; PackageReference: LX4; PackageDescription: 4-Pin Ceramic LCC, Body 5 x 3.2 mm, Pitch 2.5 mm; Supplier 1: Digi-Key; Supplier Part Number 1: CY25701FLXIT-ND; Supplier 2: Newark; Supplier Part Number 2: 41M1222; Supplier 3: Mouser; Supplier Part Number 3: 727-CY25701FLXIT; Max. Operating Temp. (degreesC): 85; Min. Operating Temp. (degreesC): -40; Packing: Tape and Reel; RoHS: Pb-Free; Mounting Technology: Surface Mount; ComponentLink1Description: Manufacturer URL; ComponentLink1URL: http://www.cypress.com/; ComponentLink2Description: Datasheet; ComponentLink2URL: http://www.cypress.com/?docID=31681; ComponentLink3Description: Package Specification; ComponentLink3URL: http://www.cypress.com/?docID=31681
footprint CYP-LX4_V (LCC, 4-Leads, Body 5x3.2mm, Pitch 2.5mm)
pins: 1 OE (in) "Output Enable pin: Active HIGH. If OE = 1, SSCLK is enabled", 2 VSS (power) "Power supply ground", 3 SSCLK (hiz) "Spread spectrum clock output (with or without spread)", 4 VDD (power) "3.3 V power supply"

## CY25811SXC
designator U?
Spread Spectrum Clock Generator, 3.3 V, 1 Output, 4 to 32 MHz, 0 to 70 degC, 8-Pin SOIC (SX8), Tube; Manufacturer: Cypress; PartNumber: CY25811SXC; Input Frequency Max. (MHz): 32; Input Frequency Min. (MHz): 4; Max. Operating Voltage (V): 3.63; Min. Operating Voltage (V): 2.97; No. of Outputs: 1; DatasheetVersion: Rev. *J; PackageVersion: Rev. *E, 06/2011; PackageReference: SX8; PackageDescription: 8-pin Lead SOIC-S08, Body 4.89 x 3.90 mm,Pitch 1.27 mm; Supplier 1: Digi-Key; Supplier Part Number 1: 428-2225-5-ND; Supplier 2: Farnell; Supplier Part Number 2: 1873009; Supplier 3: Newark; Supplier Part Number 3: 19M2299; Supplier 4: Mouser; Supplier Part Number 4: 727-CY25811SXC; Max. Operating Temp. (degreesC): 70; Min. Operating Temp. (degreesC): 0; Output Frequency Max. (MHz): 32; Output Frequency Min. (MHz): 4; Packing: Tube; RoHS: Pb-Free; Mounting Technology: Surface Mount; Code_JEDEC: MS-012; ComponentLink1Description: Manufacturer URL; ComponentLink1URL: http://www.cypress.com/; ComponentLink2Description: Datasheet; ComponentLink2URL: http://www.cypress.com/?docID=30664; ComponentLink3Description: Package Specification; ComponentLink3URL: http://www.cypress.com/?docID=39153
footprint CYP-SX8_N (SOIC, 8-Leads, Body 4.89x3.90mm, Pitch 1.27mm, IPC Medium Density)
footprint CYP-SX8_L (SOIC, 8-Leads, Body 4.89x3.90mm, Pitch 1.27mm, IPC High Density)
footprint CYP-SX8_M (SOIC, 8-Leads, Body 4.89x3.90mm, Pitch 1.27mm, IPC Low Density)
pins: 1 XIN/CLK (in) "Crystal, Ceramic Resonator or Clock Input Pin.", 2 VSS (power) "Power Supply Ground.", 3 S1 (in) "Digital Spread% Control Pin. 3-Level input (H-M-L). Default = M.", 4 S0 (in) "Digital Spread% Control Pin. 3-Level input (H-M-L). Default = M.", 5 SSCLK (out) "Spread Spectrum Output Clock.", 6 FRSEL (in) "Input Frequency Range Selection Digital Control Input. 3-Level input (H-M-L). Default = M.", 7 VDD (power) "Positive Power Supply.", 8 XOUT "Crystal or Ceramic Resonator Output Pin."

## CY25811SXCT
designator U?
Spread Spectrum Clock Generator, 3.3 V, 1 Output, 4 to 32 MHz, 0 to 70 degC, 8-Pin SOIC (SX8), Tape and Reel; Manufacturer: Cypress; PartNumber: CY25811SXCT; Input Frequency Max. (MHz): 32; Input Frequency Min. (MHz): 4; Max. Operating Voltage (V): 3.63; Min. Operating Voltage (V): 2.97; No. of Outputs: 1; DatasheetVersion: Rev. *J; PackageVersion: Rev. *E, 06/2011; PackageReference: SX8; PackageDescription: 8-pin Lead SOIC-S08, Body 4.89 x 3.90 mm,Pitch 1.27 mm; Supplier 1: Digi-Key; Supplier Part Number 1: CY25811SXCT-ND; Supplier 2: Farnell; Supplier Part Number 2: 1876331; Supplier 3: Newark; Supplier Part Number 3: 19M2300; Supplier 4: Mouser; Supplier Part Number 4: 727-CY25811SXCT; Max. Operating Temp. (degreesC): 70; Min. Operating Temp. (degreesC): 0; Output Frequency Max. (MHz): 32; Output Frequency Min. (MHz): 4; Packing: Tape and Reel; RoHS: Pb-Free; Mounting Technology: Surface Mount; Code_JEDEC: MS-012; ComponentLink1Description: Manufacturer URL; ComponentLink1URL: http://www.cypress.com/; ComponentLink2Description: Datasheet; ComponentLink2URL: http://www.cypress.com/?docID=30664; ComponentLink3Description: Package Specification; ComponentLink3URL: http://www.cypress.com/?docID=39153
footprint CYP-SX8_N (SOIC, 8-Leads, Body 4.89x3.90mm, Pitch 1.27mm, IPC Medium Density)
footprint CYP-SX8_L (SOIC, 8-Leads, Body 4.89x3.90mm, Pitch 1.27mm, IPC High Density)
footprint CYP-SX8_M (SOIC, 8-Leads, Body 4.89x3.90mm, Pitch 1.27mm, IPC Low Density)
pins: 1 XIN/CLK (in) "Crystal, Ceramic Resonator or Clock Input Pin.", 2 VSS (power) "Power Supply Ground.", 3 S1 (in) "Digital Spread% Control Pin. 3-Level input (H-M-L). Default = M.", 4 S0 (in) "Digital Spread% Control Pin. 3-Level input (H-M-L). Default = M.", 5 SSCLK (out) "Spread Spectrum Output Clock.", 6 FRSEL (in) "Input Frequency Range Selection Digital Control Input. 3-Level input (H-M-L). Default = M.", 7 VDD (power) "Positive Power Supply.", 8 XOUT "Crystal or Ceramic Resonator Output Pin."

## CY25811SXI
designator U?
Spread Spectrum Clock Generator, 3.3 V, 1 Output, 4 to 32 MHz, -40 to 85 degC, 8-Pin SOIC (SX8), Tube; Manufacturer: Cypress; PartNumber: CY25811SXI; Input Frequency Max. (MHz): 32; Input Frequency Min. (MHz): 4; Max. Operating Voltage (V): 3.465; Min. Operating Voltage (V): 3.135; No. of Outputs: 1; DatasheetVersion: Rev. *J; PackageVersion: Rev. *E, 06/2011; PackageReference: SX8; PackageDescription: 8-pin Lead SOIC-S08, Body 4.89 x 3.90 mm,Pitch 1.27 mm; Supplier 1: Digi-Key; Supplier Part Number 1: CY25811SXI-ND; Supplier 2: Newark; Supplier Part Number 2: 19M2302; Supplier 3: Mouser; Supplier Part Number 3: 727-CY25811SXI; Max. Operating Temp. (degreesC): 85; Min. Operating Temp. (degreesC): -40; Output Frequency Max. (MHz): 32; Output Frequency Min. (MHz): 4; Packing: Tube; RoHS: Pb-Free; Mounting Technology: Surface Mount; Code_JEDEC: MS-012; ComponentLink1Description: Manufacturer URL; ComponentLink1URL: http://www.cypress.com/; ComponentLink2Description: Datasheet; ComponentLink2URL: http://www.cypress.com/?docID=30664; ComponentLink3Description: Package Specification; ComponentLink3URL: http://www.cypress.com/?docID=39153
footprint CYP-SX8_N (SOIC, 8-Leads, Body 4.89x3.90mm, Pitch 1.27mm, IPC Medium Density)
footprint CYP-SX8_L (SOIC, 8-Leads, Body 4.89x3.90mm, Pitch 1.27mm, IPC High Density)
footprint CYP-SX8_M (SOIC, 8-Leads, Body 4.89x3.90mm, Pitch 1.27mm, IPC Low Density)
pins: 1 XIN/CLK (in) "Crystal, Ceramic Resonator or Clock Input Pin.", 2 VSS (power) "Power Supply Ground.", 3 S1 (in) "Digital Spread% Control Pin. 3-Level input (H-M-L). Default = M.", 4 S0 (in) "Digital Spread% Control Pin. 3-Level input (H-M-L). Default = M.", 5 SSCLK (out) "Spread Spectrum Output Clock.", 6 FRSEL (in) "Input Frequency Range Selection Digital Control Input. 3-Level input (H-M-L). Default = M.", 7 VDD (power) "Positive Power Supply.", 8 XOUT "Crystal or Ceramic Resonator Output Pin."

## CY25811SXIT
designator U?
Spread Spectrum Clock Generator, 3.3 V, 1 Output, 4 to 32 MHz, -40 to 85 degC, 8-Pin SOIC (SX8), Tape and Reel; Manufacturer: Cypress; PartNumber: CY25811SXIT; Input Frequency Max. (MHz): 32; Input Frequency Min. (MHz): 4; Max. Operating Voltage (V): 3.465; Min. Operating Voltage (V): 3.135; No. of Outputs: 1; DatasheetVersion: Rev. *J; PackageVersion: Rev. *E, 06/2011; PackageReference: SX8; PackageDescription: 8-pin Lead SOIC-S08, Body 4.89 x 3.90 mm,Pitch 1.27 mm; Supplier 1: Digi-Key; Supplier Part Number 1: CY25811SXIT-ND; Supplier 2: Mouser; Supplier Part Number 2: 727-CY25811SXIT; Max. Operating Temp. (degreesC): 85; Min. Operating Temp. (degreesC): -40; Output Frequency Max. (MHz): 32; Output Frequency Min. (MHz): 4; Packing: Tape and Reel; RoHS: Pb-Free; Mounting Technology: Surface Mount; Code_JEDEC: MS-012; ComponentLink1Description: Manufacturer URL; ComponentLink1URL: http://www.cypress.com/; ComponentLink2Description: Datasheet; ComponentLink2URL: http://www.cypress.com/?docID=30664; ComponentLink3Description: Package Specification; ComponentLink3URL: http://www.cypress.com/?docID=39153
footprint CYP-SX8_N (SOIC, 8-Leads, Body 4.89x3.90mm, Pitch 1.27mm, IPC Medium Density)
footprint CYP-SX8_L (SOIC, 8-Leads, Body 4.89x3.90mm, Pitch 1.27mm, IPC High Density)
footprint CYP-SX8_M (SOIC, 8-Leads, Body 4.89x3.90mm, Pitch 1.27mm, IPC Low Density)
pins: 1 XIN/CLK (in) "Crystal, Ceramic Resonator or Clock Input Pin.", 2 VSS (power) "Power Supply Ground.", 3 S1 (in) "Digital Spread% Control Pin. 3-Level input (H-M-L). Default = M.", 4 S0 (in) "Digital Spread% Control Pin. 3-Level input (H-M-L). Default = M.", 5 SSCLK (out) "Spread Spectrum Output Clock.", 6 FRSEL (in) "Input Frequency Range Selection Digital Control Input. 3-Level input (H-M-L). Default = M.", 7 VDD (power) "Positive Power Supply.", 8 XOUT "Crystal or Ceramic Resonator Output Pin."

## CY25812SXC
designator U?
Spread Spectrum Clock Generator, 3.3 V, 1 Output, 8 to 64 MHz, 0 to 70 degC, 8-Pin SOIC (SX8), Tube; Manufacturer: Cypress; PartNumber: CY25812SXC; Input Frequency Max. (MHz): 32; Input Frequency Min. (MHz): 4; Max. Operating Voltage (V): 3.63; Min. Operating Voltage (V): 2.97; No. of Outputs: 1; Output Frequency Max. (MHz): 64; Output Frequency Min. (MHz): 8; DatasheetVersion: Rev. *J; PackageVersion: Rev. *E, 06/2011; PackageReference: SX8; PackageDescription: 8-pin Lead SOIC-S08, Body 4.89 x 3.90 mm,Pitch 1.27 mm; Supplier 1: Digi-Key; Supplier Part Number 1: 428-2226-5-ND; Supplier 2: Newark; Supplier Part Number 2: 19M2306; Supplier 3: Mouser; Supplier Part Number 3: 727-CY25812SXC; Max. Operating Temp. (degreesC): 70; Min. Operating Temp. (degreesC): 0; Packing: Tube; RoHS: Pb-Free; Mounting Technology: Surface Mount; Code_JEDEC: MS-012; ComponentLink1Description: Manufacturer URL; ComponentLink1URL: http://www.cypress.com/; ComponentLink2Description: Datasheet; ComponentLink2URL: http://www.cypress.com/?docID=30664; ComponentLink3Description: Package Specification; ComponentLink3URL: http://www.cypress.com/?docID=39153
footprint CYP-SX8_N (SOIC, 8-Leads, Body 4.89x3.90mm, Pitch 1.27mm, IPC Medium Density)
footprint CYP-SX8_L (SOIC, 8-Leads, Body 4.89x3.90mm, Pitch 1.27mm, IPC High Density)
footprint CYP-SX8_M (SOIC, 8-Leads, Body 4.89x3.90mm, Pitch 1.27mm, IPC Low Density)
pins: 1 XIN/CLK (in) "Crystal, Ceramic Resonator or Clock Input Pin.", 2 VSS (power) "Power Supply Ground.", 3 S1 (in) "Digital Spread% Control Pin. 3-Level input (H-M-L). Default = M.", 4 S0 (in) "Digital Spread% Control Pin. 3-Level input (H-M-L). Default = M.", 5 SSCLK (out) "Spread Spectrum Output Clock.", 6 FRSEL (in) "Input Frequency Range Selection Digital Control Input. 3-Level input (H-M-L). Default = M.", 7 VDD (power) "Positive Power Supply.", 8 XOUT "Crystal or Ceramic Resonator Output Pin."

## CY25812SXCT
designator U?
Spread Spectrum Clock Generator, 3.3 V, 1 Output, 8 to 64 MHz, 0 to 70 degC, 8-Pin SOIC (SX8), Tape and Reel; Manufacturer: Cypress; PartNumber: CY25812SXCT; Input Frequency Max. (MHz): 32; Input Frequency Min. (MHz): 4; Max. Operating Voltage (V): 3.63; Min. Operating Voltage (V): 2.97; No. of Outputs: 1; Output Frequency Max. (MHz): 64; Output Frequency Min. (MHz): 8; DatasheetVersion: Rev. *J; PackageVersion: Rev. *E, 06/2011; PackageReference: SX8; PackageDescription: 8-pin Lead SOIC-S08, Body 4.89 x 3.90 mm,Pitch 1.27 mm; Supplier 1: Digi-Key; Supplier Part Number 1: CY25812SXCT-ND; Supplier 2: Mouser; Supplier Part Number 2: 727-CY25812SXCT; Max. Operating Temp. (degreesC): 70; Min. Operating Temp. (degreesC): 0; Packing: Tape and Reel; RoHS: Pb-Free; Mounting Technology: Surface Mount; Code_JEDEC: MS-012; ComponentLink1Description: Manufacturer URL; ComponentLink1URL: http://www.cypress.com/; ComponentLink2Description: Datasheet; ComponentLink2URL: http://www.cypress.com/?docID=30664; ComponentLink3Description: Package Specification; ComponentLink3URL: http://www.cypress.com/?docID=39153
footprint CYP-SX8_N (SOIC, 8-Leads, Body 4.89x3.90mm, Pitch 1.27mm, IPC Medium Density)
footprint CYP-SX8_L (SOIC, 8-Leads, Body 4.89x3.90mm, Pitch 1.27mm, IPC High Density)
footprint CYP-SX8_M (SOIC, 8-Leads, Body 4.89x3.90mm, Pitch 1.27mm, IPC Low Density)
pins: 1 XIN/CLK (in) "Crystal, Ceramic Resonator or Clock Input Pin.", 2 VSS (power) "Power Supply Ground.", 3 S1 (in) "Digital Spread% Control Pin. 3-Level input (H-M-L). Default = M.", 4 S0 (in) "Digital Spread% Control Pin. 3-Level input (H-M-L). Default = M.", 5 SSCLK (out) "Spread Spectrum Output Clock.", 6 FRSEL (in) "Input Frequency Range Selection Digital Control Input. 3-Level input (H-M-L). Default = M.", 7 VDD (power) "Positive Power Supply.", 8 XOUT "Crystal or Ceramic Resonator Output Pin."

## CY25812ZXC
designator U?
Spread Spectrum Clock Generator, 3.3 V, 1 Output, 8 to 64 MHz, 0 to 70 degC, 8-Pin TSSOP (ZX8), Tube; Manufacturer: Cypress; PartNumber: CY25812ZXC; Input Frequency Max. (MHz): 32; Input Frequency Min. (MHz): 4; Max. Operating Voltage (V): 3.63; Min. Operating Voltage (V): 2.97; No. of Outputs: 1; Output Frequency Max. (MHz): 64; Output Frequency Min. (MHz): 8; DatasheetVersion: Rev. *J; PackageVersion: Rev. *D, 09/2011; PackageReference: ZX8; PackageDescription: 8-Pin Thin Shrink Small Outline Package, Body 3 x 4.4 mm, Pitch 0.65 mm; Supplier 1: Digi-Key; Supplier Part Number 1: CY25812ZXC-ND; Supplier 2: Mouser; Supplier Part Number 2: 727-CY25812ZXC; Max. Operating Temp. (degreesC): 70; Min. Operating Temp. (degreesC): 0; Packing: Tube; RoHS: Pb-Free; Mounting Technology: Surface Mount; Code_JEDEC: MO-153; ComponentLink1Description: Manufacturer URL; ComponentLink1URL: http://www.cypress.com/; ComponentLink2Description: Datasheet; ComponentLink2URL: http://www.cypress.com/?docID=30664; ComponentLink3Description: Package Specification; ComponentLink3URL: http://www.cypress.com/?docID=39142
footprint CYP-ZX8_N (SOP, 8-Leads, Body 4.5x3.1mm, Pitch 0.65mm, IPC Medium Density)
footprint CYP-ZX8_L (SOP, 8-Leads, Body 4.5x3.1mm, Pitch 0.65mm, IPC High Density)
footprint CYP-ZX8_M (SOP, 8-Leads, Body 4.5x3.1mm, Pitch 0.65mm, IPC Low Density)
pins: 1 XIN/CLK (in) "Crystal, Ceramic Resonator or Clock Input Pin.", 2 VSS (power) "Power Supply Ground.", 3 S1 (in) "Digital Spread% Control Pin. 3-Level input (H-M-L). Default = M.", 4 S0 (in) "Digital Spread% Control Pin. 3-Level input (H-M-L). Default = M.", 5 SSCLK (out) "Spread Spectrum Output Clock.", 6 FRSEL (in) "Input Frequency Range Selection Digital Control Input. 3-Level input (H-M-L). Default = M.", 7 VDD (power) "Positive Power Supply.", 8 XOUT "Crystal or Ceramic Resonator Output Pin."